# EAGLE library part CY8C4245LQ (library ic-Cypress)
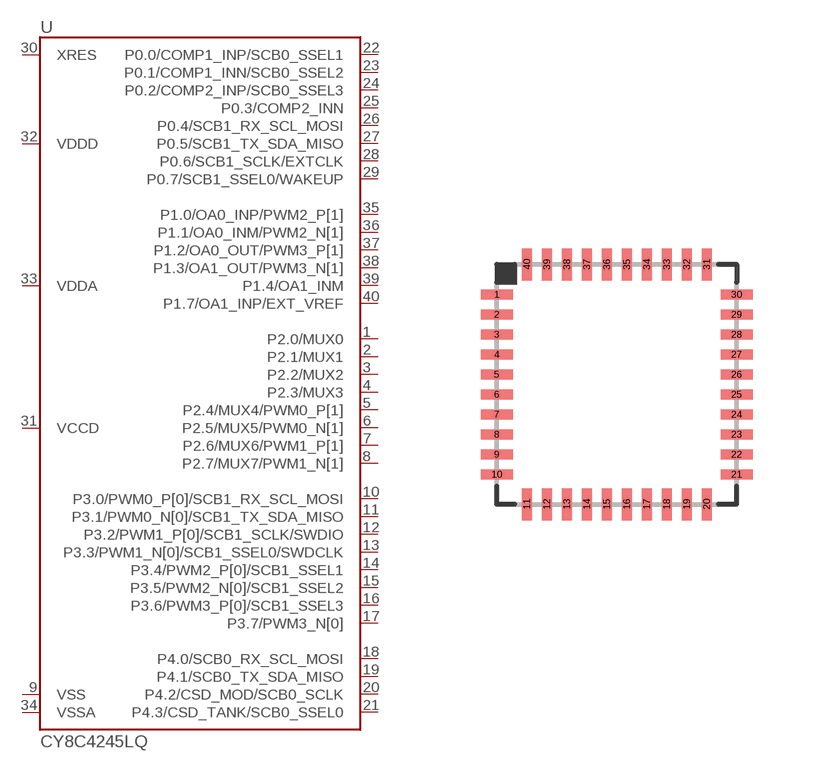
[diagram p2: symbol with the pads of QFN40-0.5-NOPAD; footprint QFN40-0.5-NOPAD]

Designator prefix U

## CY8C4245LQ  [QFN40-0.5-NOPAD]
1  P2.0/MUX0
2  P2.1/MUX1
3  P2.2/MUX2
4  P2.3/MUX3
5  P2.4/MUX4/PWM0_P[1]
6  P2.5/MUX5/PWM0_N[1]
7  P2.6/MUX6/PWM1_P[1]
8  P2.7/MUX7/PWM1_N[1]
9  VSS
10  P3.0/PWM0_P[0]/SCB1_RX_SCL_MOSI
11  P3.1/PWM0_N[0]/SCB1_TX_SDA_MISO
12  P3.2/PWM1_P[0]/SCB1_SCLK/SWDIO
13  P3.3/PWM1_N[0]/SCB1_SSEL0/SWDCLK
14  P3.4/PWM2_P[0]/SCB1_SSEL1
15  P3.5/PWM2_N[0]/SCB1_SSEL2
16  P3.6/PWM3_P[0]/SCB1_SSEL3
17  P3.7/PWM3_N[0]
18  P4.0/SCB0_RX_SCL_MOSI
19  P4.1/SCB0_TX_SDA_MISO
20  P4.2/CSD_MOD/SCB0_SCLK
21  P4.3/CSD_TANK/SCB0_SSEL0
22  P0.0/COMP1_INP/SCB0_SSEL1
23  P0.1/COMP1_INN/SCB0_SSEL2
24  P0.2/COMP2_INP/SCB0_SSEL3
25  P0.3/COMP2_INN
26  P0.4/SCB1_RX_SCL_MOSI
27  P0.5/SCB1_TX_SDA_MISO
28  P0.6/SCB1_SCLK/EXTCLK
29  P0.7/SCB1_SSEL0/WAKEUP
30  XRES
31  VCCD
32  VDDD
33  VDDA
34  VSSA
35  P1.0/OA0_INP/PWM2_P[1]
36  P1.1/OA0_INM/PWM2_N[1]
37  P1.2/OA0_OUT/PWM3_P[1]
38  P1.3/OA1_OUT/PWM3_N[1]
39  P1.4/OA1_INM
40  P1.7/OA1_INP/EXT_VREF

## Footprint QFN40-0.5-NOPAD (pad centres in mm)
smd 0.8 x 0.25: 1 -3,2.25; 2 -3,1.75; 3 -3,1.25; 4 -3,0.75; 5 -3,0.25; 6 -3,-0.25; 7 -3,-0.75; 8 -3,-1.25; 9 -3,-1.75; 10 -3,-2.25; 21 3,-2.25; 22 3,-1.75; 23 3,-1.25; 24 3,-0.75; 25 3,-0.25; 26 3,0.25; 27 3,0.75; 28 3,1.25; 29 3,1.75; 30 3,2.25
smd 0.25 x 0.8: 11 -2.25,-3; 12 -1.75,-3; 13 -1.25,-3; 14 -0.75,-3; 15 -0.25,-3; 16 0.25,-3; 17 0.75,-3; 18 1.25,-3; 19 1.75,-3; 20 2.25,-3; 31 2.25,3; 32 1.75,3; 33 1.25,3; 34 0.75,3; 35 0.25,3; 36 -0.25,3; 37 -0.75,3; 38 -1.25,3; 39 -1.75,3; 40 -2.25,3